# Altium schematic symbol library lm4875.SchLib: 1 symbol
Pins are listed as number, name and electrical type; pins without a type are passive.

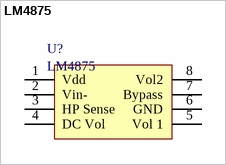
[diagram p0: symbol LM4875]

## LM4875
designator U?
750 mW Audio Power Amplifier with DC Volume  Control; datasheet: http://www.ti.com/lit/ds/symlink/lm4875.pdf
pins: 1 Vdd, 2 Vin-, 3 HP Sense, 4 DC Vol, 5 Vol 1, 6 GND, 7 Bypass, 8 Vol2